# EAGLE library part MKS1861-6-0-1111 (library con-stocko)
Serie MKS 1850 Lötstifte In-line, Raster 2.5 mm, Stiftwannen, stehend, mit Rastlasche Source: http://www.stocko.de/de/index.php?seite=ka_rfk2_mks1850.html&rubrik=Katalog+-+RFK+2 rfk_1850.pdf
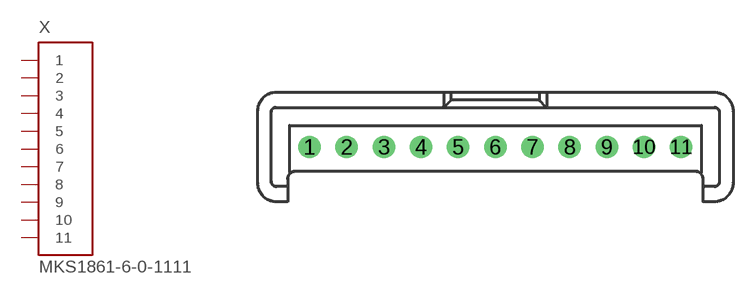
[diagram p5: symbol with the pads of MKS1861-6-0-1111; footprint MKS1861-6-0-1111]

Designator prefix X

## MKS1861-6-0-1111 (OC_FARNELL: unknown; OC_NEWARK: unknown)  [MKS1861-6-0-1111]
1  1  in
2  2  in
3  3  in
4  4  in
5  5  in
6  6  in
7  7  in
8  8  in
9  9  in
10  10  in
11  11  in

## Footprint MKS1861-6-0-1111 (pad centres in mm)
Serie MKS 1850 Lötstifte In-line, Raster 2.5 mm, Stiftwannen, stehend, mit Rastlasche Source: http://www.stocko.de/de/index.php?seite=ka_rfk2_mks1850.html&rubrik=Katalog+-+RFK+2 rfk_1850.pdf
drill 1 pad 1.422: 1 -12.5,0; 2 -10,0; 3 -7.5,0; 4 -5,0; 5 -2.5,0; 6 0,0; 7 2.5,0; 8 5,0; 9 7.5,0; 10 10,0; 11 12.5,0